# Altium footprint library Sensors.PcbLib: 13 footprints
Each footprint in its own frame and in the unit in brackets; x right, y up, seen from the top. Pads: shape width x height; smd on the part's side, far side on the other; paste and mask are expansions set on the pad; w line width, h text height; cw(c..) or ccw(c..) is an arc to the next point about the centre after c.
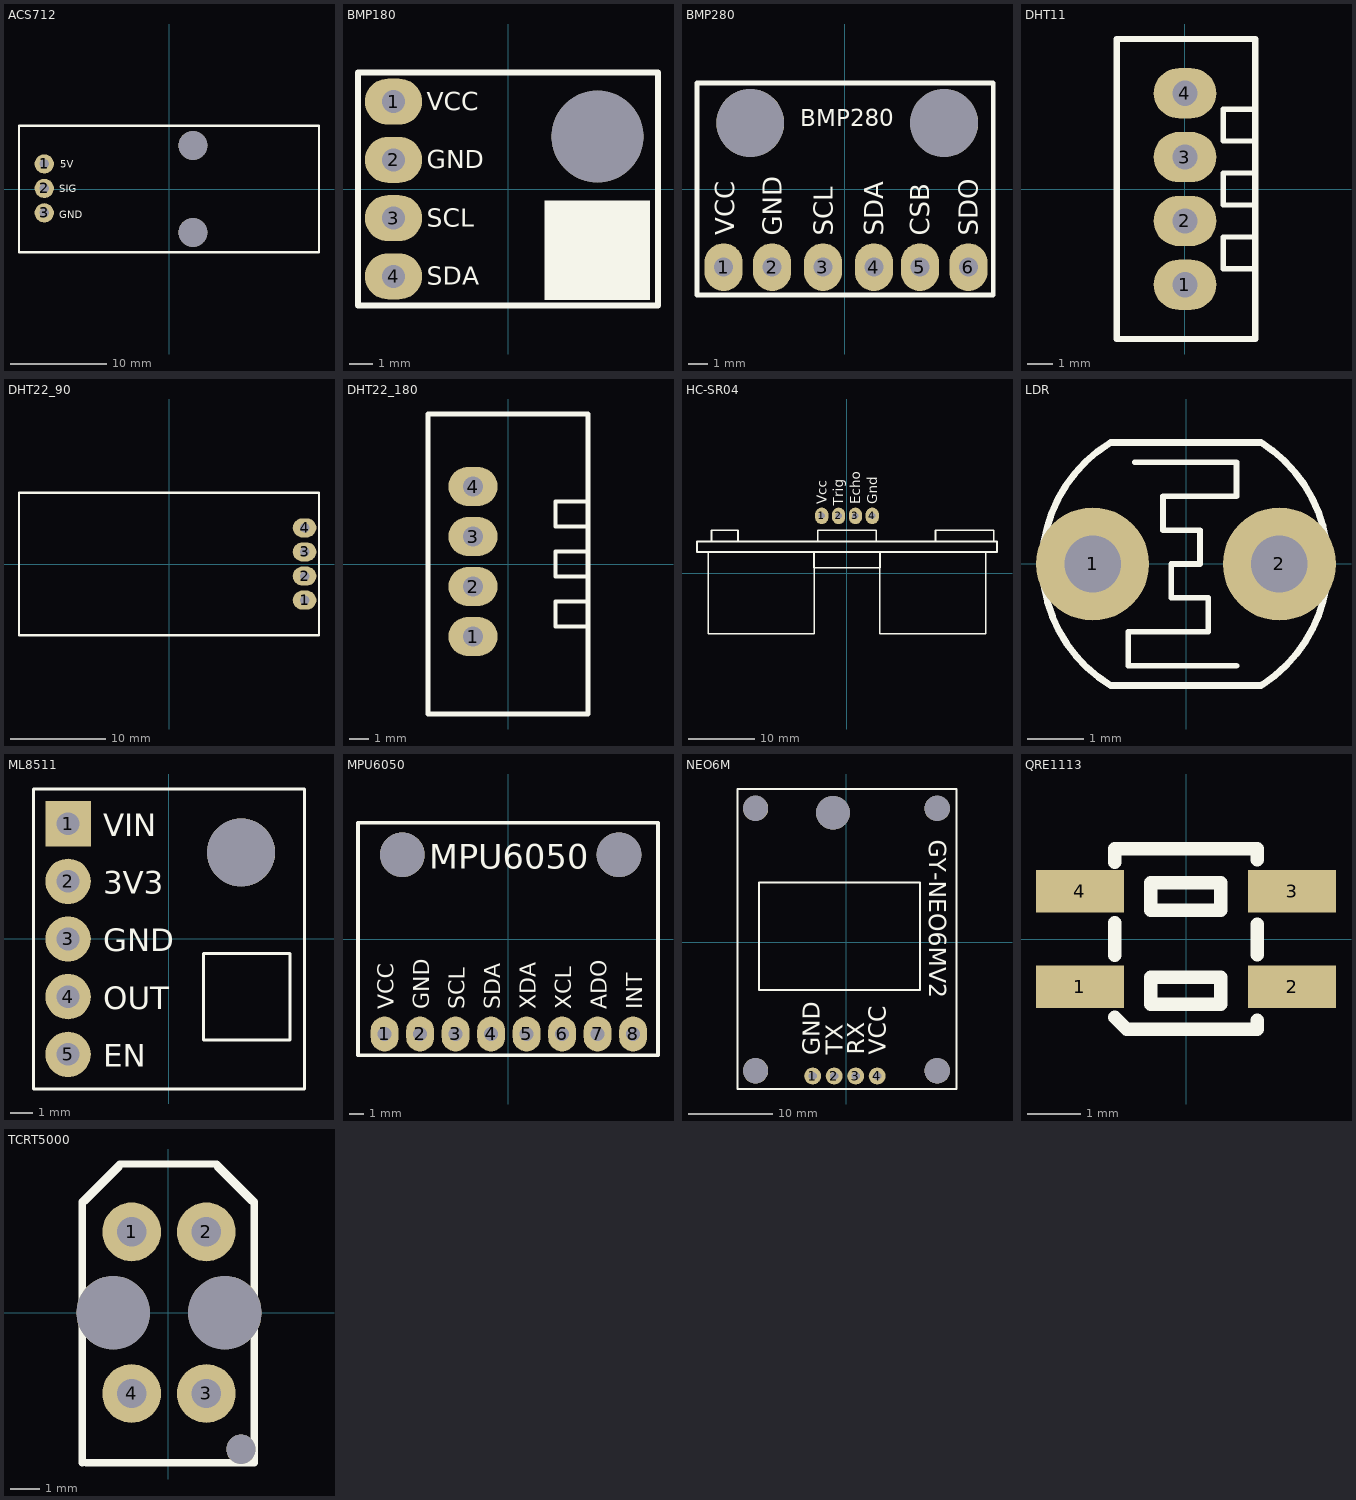
[diagram p0: the footprints below, top view; thin cyan lines are the x and y axes]

## ACS712 [mm]
pads (5):
  round 2 hole 1 paste-2539.97 mask+0.051: 1(-12.935,2.602) 2(-12.935,0.062) 3(-12.935,-2.478)
  round 3 hole 3 unplated paste-2539.97: ""(2.474,-4.497) ""(2.474,4.52)
Top Overlay:
  lines w0.254: -15.557,-6.552 15.557,-6.552 15.557,6.552 -15.557,6.552 -15.557,-6.552
  text "5V" at -11.259,2.183 h0.76
  text "SIG" at -11.386,-0.357 h0.76
  text "GND" at -11.386,-3.024 h0.76
3D body "ACS712.SLDPRT": height 13.91, standoff -5.97, extent -15.684,-6.644 15.506,6.656

## BMP180 [mm] "SENSOR ATMOSPHERIC PRESSURE/TEMPERATURE"
pads (5):
  oval 2.5x2 hole 1: 1(-4.992,3.81) 2(-4.992,1.27) 3(-4.992,-1.27) 4(-4.992,-3.81)
  round 4 hole 4 unplated: ""(3.898,2.286)
Top Overlay:
  region: 6.184,-4.826 1.612,-4.826 1.612,-0.508 6.184,-0.508
  lines w0.254: -6.54,-5.08 -6.54,5.08 6.54,5.08 6.54,-5.08 -6.54,-5.08
  text "SDA" at -3.543,-4.18 h0.8
  text "SCL" at -3.543,-1.64 h0.8
  text "GND" at -3.543,0.9 h0.8
  text "VCC" at -3.543,3.44 h0.8
3D body "BMP180.step": height 5.63, standoff -6.31, extent -6.209,-5.038 6.59,5.162

## BMP280 [mm] "SENSOR ATMOSPHERIC PRESSURE/TEMPERATURE/ALTITUDE"
pads (8):
  oval 2x2.5 hole 1: 1(-6.35,-4.096) 2(-3.81,-4.096) 3(-1.143,-4.096) 4(1.524,-4.096) 5(3.937,-4.096) 6(6.477,-4.096)
  round 3.556 hole 3.556 unplated: ""(-4.953,3.461) ""(5.207,3.461)
Top Overlay:
  lines w0.254: 7.747,-5.556 -7.747,-5.556 -7.747,5.556 0,5.556 7.747,5.556 ; 7.777,-5.556 7.777,5.556
  text "SDO" at 6.977,-2.445 h1
  text "CSB" at 4.437,-2.445 h1
  text "SDA" at 2.024,-2.445 h1
  text "SCL" at -0.643,-2.445 h1
  text "GND" at -3.31,-2.445 h1
  text "VCC" at -5.791,-2.432 h1
  text "BMP280" at -2.337,3.283 h0.89
3D body "BMP280.stp": height 6.07, standoff -6.62, extent -7.62,-5.595 7.62,5.405

## DHT11 [mm] "SENSOR HUMIDITY/TEMPERATURE"
pads (4):
  oval 2.5x2 hole 1: 1(0,-3.81) 2(0,-1.27) 3(0,1.27) 4(0,3.81)
Top Overlay:
  lines w0.203: 2.794,-3.175 1.524,-3.175 1.524,-1.905 2.794,-1.905 ; 2.794,-0.635 1.524,-0.635 1.524,0.635 2.794,0.635 ; 2.794,1.905 1.524,1.905 1.524,3.175 2.794,3.175
  lines w0.254: -2.714,-5.969 -2.714,5.969 2.794,5.969 2.794,-5.969 -2.714,-5.969
3D body "DHT11.SLDPRT": height 15.5, standoff -8, extent -2.706,-6 2.794,6

## DHT22_90 [mm]
pads (4):
  oval 2.5x2 hole 1: 1(14.287,-3.81) 2(14.287,-1.27) 3(14.287,1.27) 4(14.287,3.81)
Top Overlay:
  lines w0.254: -15.811,-7.493 -15.811,7.493 15.811,7.493 15.811,-7.493 -15.811,-7.493
3D body "DHT22_90.stp": height 7.73, standoff -2, extent -15.807,-7.55 14.541,7.55

## DHT22_180 [mm]
pads (4):
  oval 2.5x2 hole 1: 1(-1.778,-3.683) 2(-1.778,-1.143) 3(-1.778,1.397) 4(-1.778,3.937)
Top Overlay:
  lines w0.203: 4.008,-3.175 2.413,-3.175 2.413,-1.905 4.008,-1.905 ; 4.008,-0.635 2.413,-0.635 2.413,0.635 4.008,0.635 ; 4.008,1.905 2.413,1.905 2.413,3.175 4.008,3.175
  lines w0.254: -4.064,-7.62 4.064,-7.62 4.064,7.62 -4.064,7.62 -4.064,-7.62
3D body "DHT22_180.SLDPRT": height 25.27, standoff -7.68, extent -4.064,-7.735 4.086,7.735

## HC-SR04 [mm] "ULTRASONIC SENSOR 400CM"
pads (4):
  oval 2x2.5 hole 1: 1(-3.81,8.636) 2(-1.27,8.636) 3(1.27,8.636) 4(3.81,8.636)
Top Overlay:
  lines w0.254: -22.65,3.186 22.65,3.186 22.65,4.786 -22.65,4.786 -22.65,3.186 ; -20.95,-9.164 -4.95,-9.164 -4.95,3.186 -20.95,3.186 -20.95,-9.164 ; -20.45,4.786 -16.45,4.786 -16.45,6.486 -20.45,6.486 -20.45,4.786 ; -5,0.786 5,0.786 5,3.186 -5,3.186 -5,0.786 ; -4.4,4.786 4.4,4.786 4.4,6.486 -4.4,6.486 -4.4,4.786 ; 4.95,-9.164 20.95,-9.164 20.95,3.186 4.95,3.186 4.95,-9.164 ; 13.35,4.786 22.15,4.786 22.15,6.486 13.35,6.486 13.35,4.786
  text "Vcc" at -3.06,10.414 h1.5
  text "Trig" at -0.577,10.165 h1.5
  text "Echo" at 2.02,10.414 h1.5
  text "Gnd" at 4.56,10.414 h1.5
3D body "HCSR04.STEP": height 20, standoff -6.6, extent -22.509,-9.022 22.491,8.978

## LDR [mm] "LIGHT DEPENDEND RESISTOR/PHOTORESITOR 3mm"
pads (2):
  round 2 hole 1: 1(-1.651,0) 2(1.651,0)
Top Overlay:
  lines w0.1: -0.907,1.801 0.892,1.801 0.892,1.199 -0.406,1.199 -0.406,0.599 0.246,0.599 0.246,0 -0.262,0 -0.262,-0.6 0.391,-0.6 0.391,-1.199 -1.024,-1.199 -1.024,-1.801 0.892,-1.801
  lines w0.12: -1.353,2.134 ccw(c-0.028,0) -1.328,-2.15 ; -1.328,-2.149 1.323,-2.149 ; -1.328,2.149 1.323,2.149 ; 1.322,2.15 cw(c-0.028,0) 1.35,-2.132
3D body "ldr.STEP": height 6.08, standoff -25.26, extent -2.515,-2.201 2.515,2.109

## ML8511 [mm]
pads (6):
  rect 2x2 hole 1 paste-2539.97 mask+0.051: 1(-4.445,5.08)
  round 2 hole 1 paste-2539.97 mask+0.051: 2(-4.445,2.54) 3(-4.445,0) 4(-4.445,-2.54) 5(-4.445,-5.08)
  round 3 hole 3 unplated paste-2539.97: ""(3.175,3.81)
Top Overlay:
  lines w0.127: -5.969,-6.604 -5.969,6.604 5.969,6.604 5.969,-6.604 -5.969,-6.604 ; 1.524,-4.445 1.524,-0.635 5.334,-0.635 5.334,-4.445 1.524,-4.445
  text "VIN" at -2.896,4.534 h1
  text "3V3" at -2.896,1.994 h1
  text "GND" at -2.896,-0.546 h1
  text "OUT" at -2.896,-3.086 h1
  text "EN" at -2.896,-5.626 h1

## MPU6050 [mm] "IMU ACCEL/GYRO 3-AXIS I2C"
pads (10):
  oval 2x2.5 hole 1: 1(-8.826,-6.794) 2(-6.286,-6.794) 3(-3.746,-6.794) 4(-1.206,-6.794) 5(1.333,-6.794) 6(3.873,-6.794) 7(6.413,-6.794) 8(8.954,-6.794)
  round 3.2 hole 3.2 unplated: ""(-7.556,6.033) ""(7.938,6.033)
Top Overlay:
  lines w0.254: -10.731,-8.318 -10.731,8.318 10.731,8.318 10.731,-8.318 -10.731,-8.318
  text "MPU6050" at -5.651,5.017 h1.75
  text "ADO" at 7.048,-5.016 h1.14
  text "XCL" at 4.508,-5.016 h1.14
  text "XDA" at 1.968,-5.016 h1.14
  text "SDA" at -0.572,-5.016 h1.14
  text "SCL" at -3.111,-5.016 h1.14
  text "GND" at -5.651,-5.016 h1.14
  text "VCC" at -8.191,-5.016 h1.14
  text "INT" at 9.588,-5.016 h1.14
3D body "GY521.STEP": height 5.69, standoff -6.06, extent -10.732,-8.186 10.768,8.314

## NEO6M [mm]
pads (9):
  round 2 hole 1 paste-2539.97 mask+0.051: 1(-3.983,-15.806) 2(-1.443,-15.806) 3(1.097,-15.806) 4(3.637,-15.806)
  round 3 hole 3 unplated paste-2539.97: ""(-10.731,-15.182) ""(-10.731,15.806) ""(10.731,-15.182) ""(10.731,15.806)
  round 4 hole 4 unplated paste-2539.97: ""(-1.587,15.298)
Top Overlay:
  lines w0.254: -12.873,-17.341 -12.873,18.103 13.017,18.103 13.018,-17.341 -12.873,-17.341 ; -10.333,-5.646 -10.333,7.054 8.717,7.054 8.717,-5.646 -10.333,-5.646
  text "TX" at -0.427,-13.266 h2.03
  text "VCC" at 4.653,-13.266 h2.03
  text "RX" at 2.113,-13.266 h2.03
  text "GY-NEO6MV2" at 9.802,12.134 h2.03
  text "GND" at -3.129,-13.378 h2.03
3D body "NEO6M.step": height 13.42, standoff -5.56, extent -12.977,-17.468 13.103,18.132

## QRE1113 [mm] "REFLECTIVE OPTICAL SENSOR SMD"
pads (4):
  rect 1.66x0.8 smd: 1(-2,-0.9) 2(2,-0.9) 3(2,0.9) 4(-2,0.9)
Top Overlay:
  lines w0.254: -1.346,-1.473 -1.118,-1.702 -0.864,-1.702 1.346,-1.702 1.346,-1.531 ; -1.346,-0.305 -1.346,0.305 ; -1.346,1.448 -1.346,1.702 1.346,1.702 1.346,1.499 ; 1.346,-0.294 1.346,0.279 ; -0.666,-1.233 0.655,-1.233 0.655,-0.725 -0.666,-0.725 -0.666,-1.233 ; -0.666,0.545 0.655,0.545 0.655,1.065 -0.666,1.065 -0.666,0.545
3D body "QRE1113.step": height 1.85, standoff 0, extent -2.355,-1.767 2.445,1.833

## TCRT5000 [mm] "REFLECTIVE OPTICAL SENSOR PTH"
pads (7):
  round 2 hole 1: 1(-1.241,2.748) 2(1.299,2.748) 3(1.299,-2.752) 4(-1.241,-2.752)
  round 2.5 hole 2.5 unplated: ""(-1.871,-0.002) ""(1.929,-0.002)
  round 1 hole 1 unplated: ""(2.479,-4.652)
Top Overlay:
  lines w0.254: -2.929,-5.102 -2.929,3.78 -1.651,5.058 1.651,5.058 2.929,3.78 2.929,-5.102 -2.794,-5.102 ; -2.823,3.808 -1.68,4.951 ; 1.68,4.951 2.823,3.808
Mechanical 15:
  circle w0.45: c2.479,-4.652 r0.225
3D body "TCRT5000.stp": height 7.02, standoff -3.5, extent -3.5,-5.122 3.5,5.078